# Altium footprint library gini_base_pcb.PCBLIB: 175 footprints (part 1 of 11)
Each footprint in its own frame and in the unit in brackets; x right, y up, seen from the top. Pads: shape width x height; smd on the part's side, far side on the other; paste and mask are expansions set on the pad; w line width, h text height; cw(c..) or ccw(c..) is an arc to the next point about the centre after c.
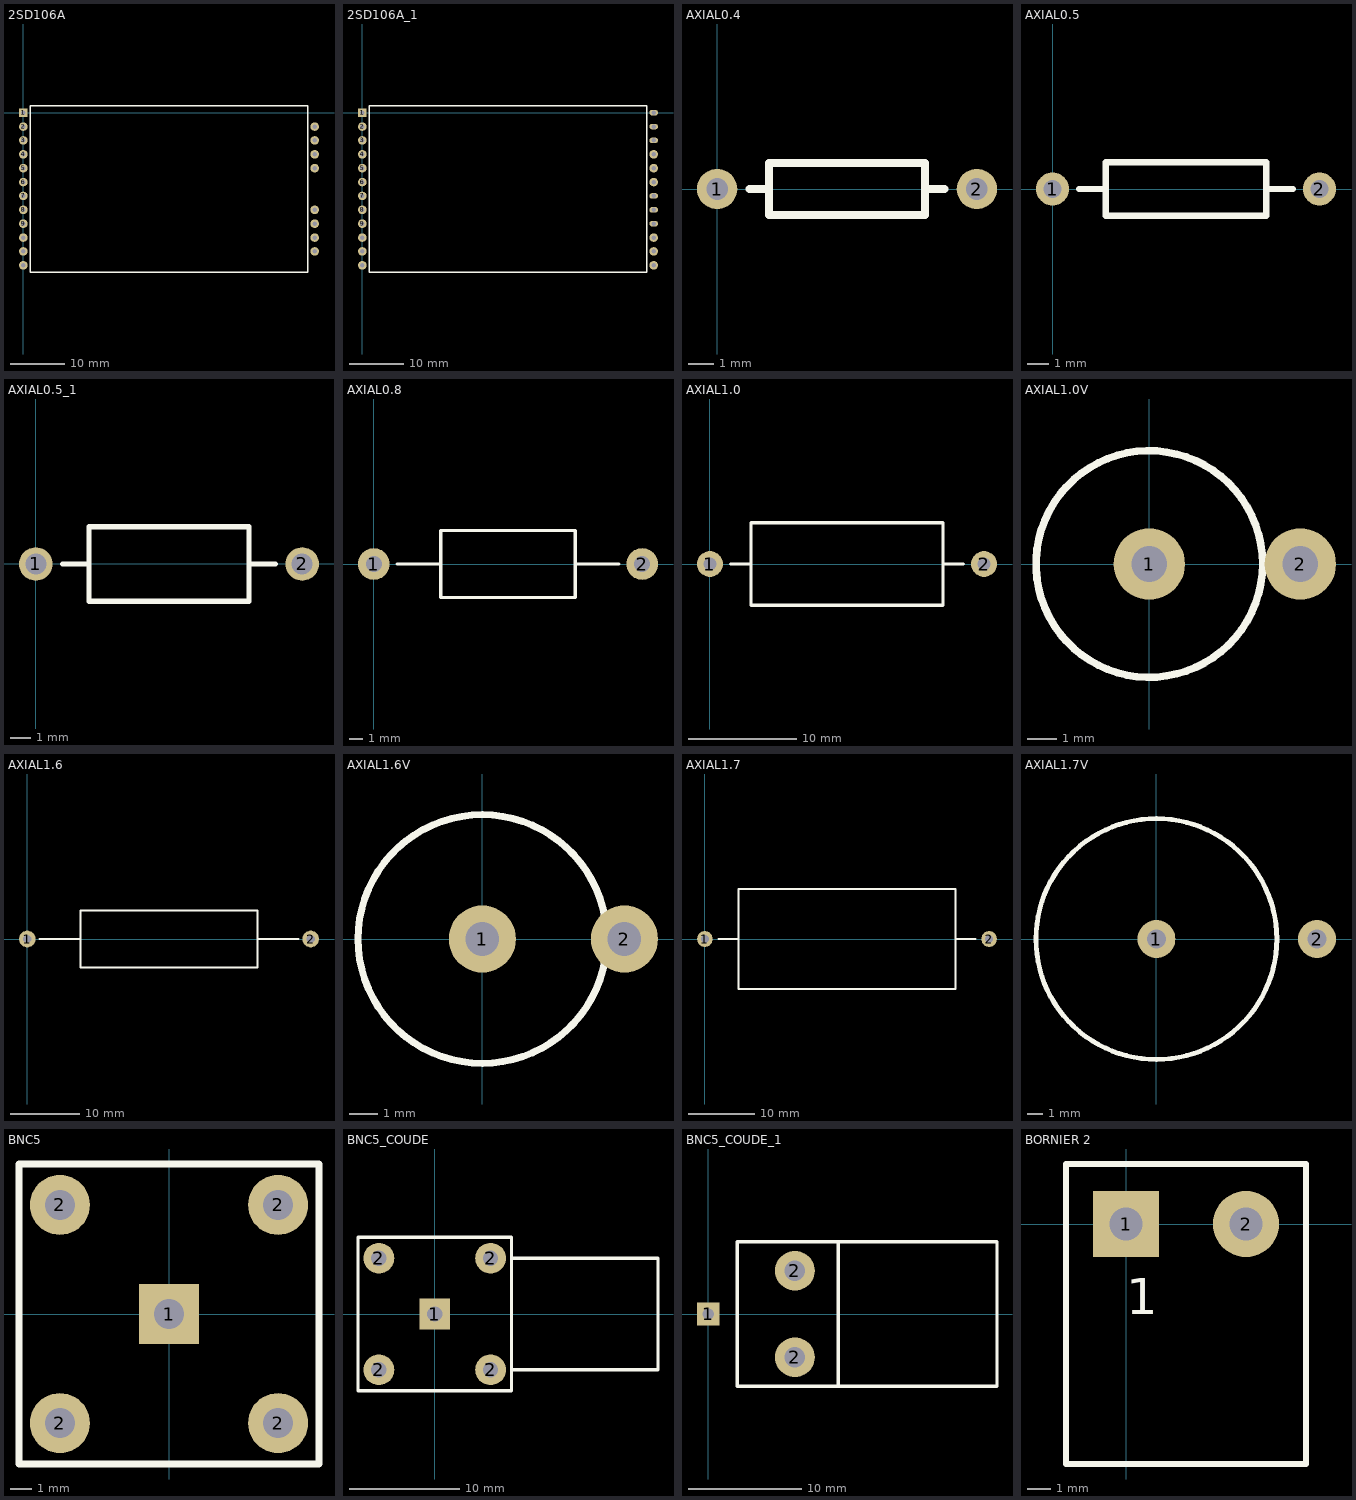
[diagram p0: the footprints below, top view; thin cyan lines are the x and y axes]

## 2SD106A [mil]
pads (20):
  rect 62x62 hole 32: 1(0,0)
  round 62 hole 32: 2(0,-100) 3(0,-200) 4(0,-300) 5(0,-400) 6(0,-500) 7(0,-600) 8(0,-700) 9(0,-800) 10(0,-900) 11(0,-1000) 12(0,-1100) 14(2100,-1000) 15(2100,-900) 16(2100,-800) 17(2100,-700) 20(2100,-400) 21(2100,-300) 22(2100,-200) 23(2100,-100)
TopOverlay:
  lines w10: 50,-1150 2050,-1150 2050,50 50,50 50,-1150

## 2SD106A_1 [mil]
pads (24):
  rect 62x62 hole 32: 1(0,0)
  round 62 hole 32: 2(0,-100) 3(0,-200) 4(0,-300) 5(0,-400) 6(0,-500) 7(0,-600) 8(0,-700) 9(0,-800) 10(0,-900) 11(0,-1000) 12(0,-1100) 13(2100,-1100) 14(2100,-1000) 15(2100,-900) 19(2100,-500) 20(2100,-400) 21(2100,-300)
  oval 62x40 hole 32: 16(2100,-800) 17(2100,-700) 18(2100,-600) 22(2100,-200) 23(2100,-100) 24(2100,0)
TopOverlay:
  lines w10: 50,-1150 2050,-1150 2050,50 50,50 50,-1150

## AXIAL0.4 [mil]
pads (2):
  round 62 hole 33.46: 1(0,0) 2(400,0)
TopOverlay:
  lines w12: 50,0 80,0 ; 320,0 350,0 ; 80,-40 320,-40 320,40 80,40 80,-40
3D body: height 115.5, standoff -100, extent -11.99,-45.49 412.01,45.51

## AXIAL0.5 [mil]
pads (2):
  round 62 hole 33.46: 1(0,0) 2(500,0)
TopOverlay:
  lines w12: 50,0 100,0 ; 400,0 450,0 ; 100,-50 400,-50 400,50 100,50 100,-50

## AXIAL0.5_1 [mm]
pads (2):
  round 1.6 hole 1: 1(0,0) 2(12.7,0)
TopOverlay:
  lines w0.254: 1.27,0 2.54,0 ; 10.16,0 11.43,0 ; 2.54,-1.778 2.54,1.778 10.16,1.778 10.16,-1.778 2.54,-1.778

## AXIAL0.8 [mm]
pads (2):
  round 2.4 hole 1.2: 1(0,0) 2(20.32,0)
TopOverlay:
  lines w0.254: 1.778,0 5.08,0 ; 15.24,0 18.542,0 ; 5.08,-2.54 5.08,2.54 15.24,2.54 15.24,-2.54 5.08,-2.54

## AXIAL1.0 [mm]
pads (2):
  round 2.4 hole 1.2: 1(0,0) 2(25.4,0)
TopOverlay:
  lines w0.305: 1.905,0 3.81,0 ; 21.59,0 23.495,0 ; 3.81,-3.81 21.59,-3.81 21.59,3.81 3.81,3.81 3.81,-3.81

## AXIAL1.0V [mm]
pads (2):
  round 2.4 hole 1.2: 1(0,0) 2(5.08,0)
TopOverlay:
  circle w0.254: c0,0 r3.81

## AXIAL1.6 [mm]
pads (2):
  round 2.4 hole 1.2: 1(0,0) 2(40.64,0)
TopOverlay:
  lines w0.305: 1.778,0 7.62,0 ; 33.147,0 38.862,0 ; 7.62,-4.064 33.02,-4.064 33.02,4.064 7.62,4.064 7.62,-4.064

## AXIAL1.6V [mm]
pads (2):
  round 2.4 hole 1.2: 1(0,0) 2(5.08,0)
TopOverlay:
  circle w0.254: c0,0 r4.445

## AXIAL1.7 [mm]
pads (2):
  round 2.4 hole 1.2: 1(0,0) 2(43.18,0)
TopOverlay:
  lines w0.305: 2.032,0 5.08,0 ; 38.1,0 41.148,0 ; 5.08,-7.62 38.1,-7.62 38.1,7.62 5.08,7.62 5.08,-7.62

## AXIAL1.7V [mm]
pads (2):
  round 2.4 hole 1.2: 1(0,0) 2(10.16,0)
TopOverlay:
  circle w0.305: c0,0 r7.62

## BNC5 [mm]
pads (5):
  rect 2.8x2.8 hole 1.4: 1(0,0)
  round 2.8 hole 1.4: 2(-5.08,-5.08) 2(-5.08,5.08) 2(5.08,-5.08) 2(5.08,5.08)
TopOverlay:
  lines w0.305: -6.985,-6.985 6.985,-6.985 6.985,6.985 -6.985,6.985 -6.985,-6.985
3D body: height 13, standoff -4.5, extent -6.006,-5.949 5.994,6.051

## BNC5_COUDE [mm]
pads (5):
  rect 2.8x2.8 hole 1.4: 1(0,0)
  round 2.8 hole 1.4: 2(-5.08,-5.08) 2(-5.08,5.08) 2(5.08,-5.08) 2(5.08,5.08)
TopOverlay:
  lines w0.305: 6.985,-5.08 20.32,-5.08 20.32,5.08 6.985,5.08 ; -6.985,-6.985 6.985,-6.985 6.985,6.985 -6.985,6.985 -6.985,-6.985

## BNC5_COUDE_1 [mm]
pads (3):
  rect 2x2 hole 1: 1(0,0)
  round 3.5 hole 1.8: 2(7.62,-3.81) 2(7.62,3.81)
TopOverlay:
  lines w0.305: 11.43,-6.35 11.43,6.35 ; 2.54,-6.35 25.4,-6.35 25.4,6.35 2.54,6.35 2.54,-6.35

## BORNIER 2 [mm]
pads (2):
  rect 2.8x2.8 hole 1.4: 1(0,0)
  round 2.8 hole 1.4: 2(5.08,0)
TopOverlay:
  lines w0.254: -2.54,-10.16 -2.54,2.54 ; -2.48,-10.16 7.62,-10.16 7.62,2.54 -2.48,2.54
  text "1" at 0,-3.81 h1.52